# EAGLE library part DRV8313 (library SquantorTexasInstruments)
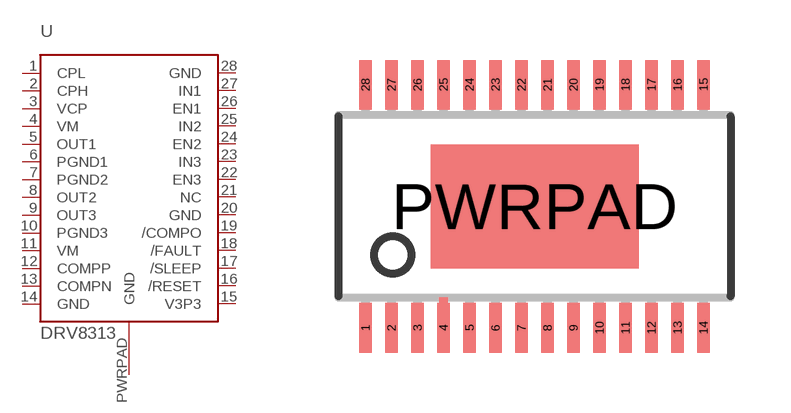
[diagram p0: symbol with the pads of HTSSOP-28; footprint HTSSOP-28]

Designator prefix -

## DRV8313  [HTSSOP-28]
1  CPL
2  CPH
3  VCP
4  VM
5  OUT1
6  PGND1
7  PGND2
8  OUT2
9  OUT3
10  PGND3
11  VM
12  COMPP
13  COMPN
14  GND
15  V3P3
16  /RESET
17  /SLEEP
18  /FAULT
19  /COMPO
20  GND
21  NC
22  EN3
23  IN3
24  EN2
25  IN2
26  EN1
27  IN1
28  GND
PWRPAD  GND

## Footprint HTSSOP-28 (pad centres in mm)
smd 0.305 x 1.241: 1 -4.225,-3.043; 2 -3.575,-3.043; 3 -2.925,-3.043; 4 -2.275,-3.043; 5 -1.625,-3.043; 6 -0.975,-3.043; 7 -0.325,-3.043; 8 0.325,-3.043; 9 0.975,-3.043; 10 1.625,-3.043; 11 2.275,-3.043; 12 2.925,-3.043; 13 3.575,-3.043; 14 4.225,-3.043; 15 4.225,3.043; 16 3.575,3.043; 17 2.925,3.043; 18 2.275,3.043; 19 1.625,3.043; 20 0.975,3.043; 21 0.325,3.043; 22 -0.325,3.043; 23 -0.975,3.043; 24 -1.625,3.043; 25 -2.275,3.043; 26 -2.925,3.043; 27 -3.575,3.043; 28 -4.225,3.043
smd 5.2 x 3.1: PWRPAD 0,0